# EAGLE library part TL2575-05 (library tl2575)
TL2574 1-A SIMPLE STEP-DOWN SWITCHING VOLTAGE REGULATORS Datasheet: http://www.ti.com/lit/ds/symlink/tl2575-05.pdf
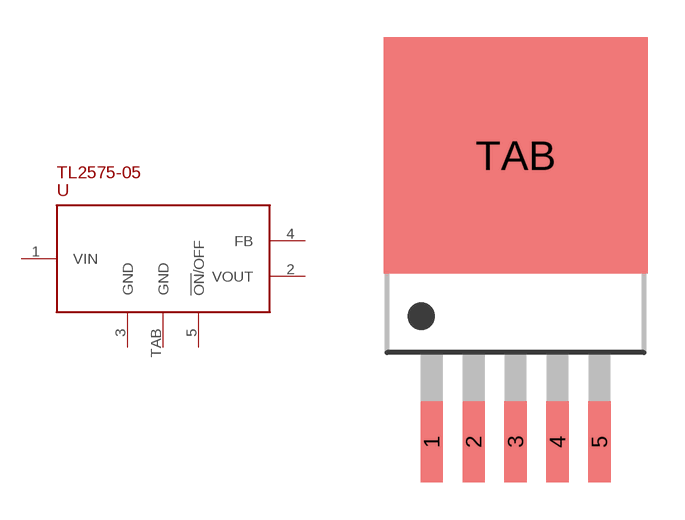
[diagram p0: symbol with the pads of TO-263-5; footprint TO-263-5]

Designator prefix -

## TL2575-05  [TO-263-5]
1  VIN
2  VOUT
3  GND
4  FB
5  !ON!/OFF
TAB  GND

## Footprint TO-263-5 (pad centres in mm)
smd 0.9 x 3.3: 1 -3.4,0; 2 -1.7,0; 3 0,0; 4 1.7,0; 5 3.4,0
smd 10.7 x 9.6: TAB 0,11.616